# Altium schematic symbol library FMTrans.SchLib: 10 symbols
Pins are listed as number, name and electrical type; pins without a type are passive.

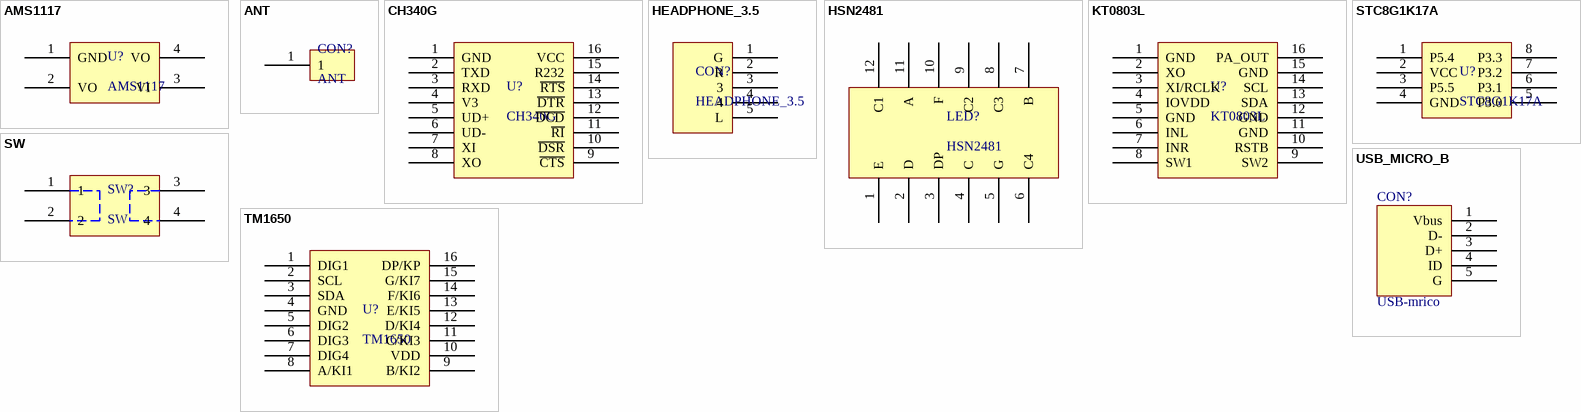
[diagram p0: symbols AMS1117 to USB_MICRO_B]

## AMS1117
designator U?
footprint SOT223-4M (SOT223, 4-Leads, Body 6.5x3.5mm, Pitch 2.3mm, Lead Span 7mm, IPC Low Density)
pins: 1 GND, 2 VO, 3 VI, 4 VO

## ANT
designator CON?
footprint ANT
pins: 1

## CH340G
designator U?
footprint SOP127P762-16L (16-Pin Small Outline Package 1.27 mm Pitch)
pins: 1 GND, 2 TXD, 3 RXD, 4 V3, 5 UD+, 6 UD-, 7 XI, 8 XO, 9 ~{CTS}, 10 ~{DSR}, 11 ~{RI}, 12 ~{DCD}, 13 ~{DTR}, 14 ~{RTS}, 15 R232, 16 VCC

## HEADPHONE_3.5
designator CON?
footprint 3F07
pins: 1 G, 2 R, 3, 4, 5 L

## HSN2481
designator LED?
footprint HSN2481
pins: 1 E, 2 D, 3 DP, 4 C, 5 G, 6 C4, 7 B, 8 C3, 9 C2, 10 F, 11 A, 12 C1

## KT0803L
designator U?
footprint SOP127P762-16L (16-Pin Small Outline Package 1.27 mm Pitch)
pins: 1 GND, 2 XO, 3 XI/RCLK, 4 IOVDD, 5 GND, 6 INL, 7 INR, 8 SW1, 9 SW2, 10 RSTB, 11 GND, 12 GND, 13 SDA, 14 SCL, 15 GND, 16 PA_OUT

## STC8G1K17A
designator U?
footprint DIP-8 (DIP; 8 Leads; Row Spacing 7.62 mm; Pitch 2.54 mm)
pins: 1 P5.4, 2 VCC, 3 P5.5, 4 GND, 5 P3.0, 6 P3.1, 7 P3.2, 8 P3.3

## SW
designator SW?
footprint SW/PB-V4/H7.1 (Switch, Push Button, Thru-Hole; 4 Leads; Body 8.5 x 8.5 mm (LxW typ); Row Spacing 9.0 mm; Pitch 4.5 mm)
pins: 1, 2, 3, 4

## TM1650
designator U?
footprint SOP127P762-16L (16-Pin Small Outline Package 1.27 mm Pitch)
pins: 1 DIG1, 2 SCL, 3 SDA, 4 GND, 5 DIG2, 6 DIG3, 7 DIG4, 8 A/KI1, 9 B/KI2, 10 VDD, 11 C/KI3, 12 D/KI4, 13 E/KI5, 14 F/KI6, 15 G/KI7, 16 DP/KP

## USB_MICRO_B
designator CON?, comment USB-mrico
footprint USB-micro_B (micro型USB ，5.7*7.8*2.5mm)
pins: 1 Vbus, 2 D-, 3 D+, 4 ID, 5 G